# EAGLE library part EB-230 (library X893)
Trimble EB-230
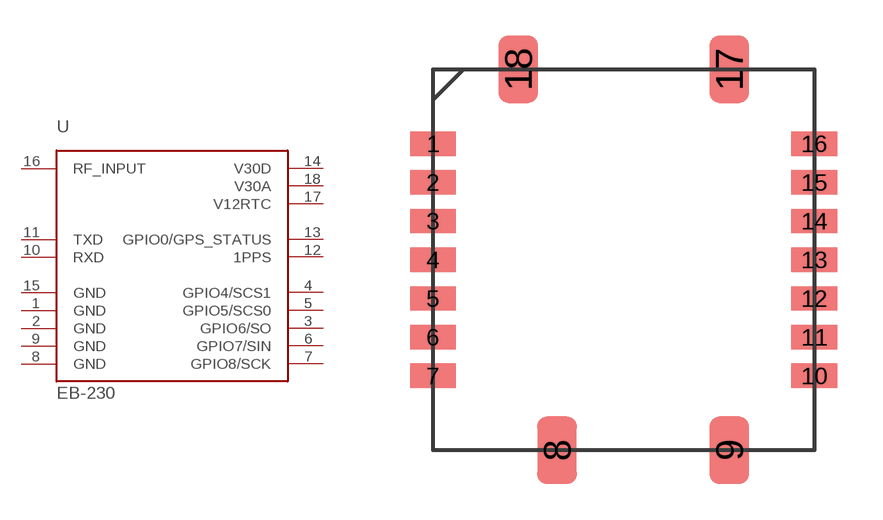
[diagram p1: symbol with the pads of EB-230; footprint EB-230]

Designator prefix -

## EB-230  [EB-230]
1  GND
2  GND
3  GPIO6/SO
4  GPIO4/SCS1
5  GPIO5/SCS0
6  GPIO7/SIN
7  GPIO8/SCK
8  GND
9  GND
10  RXD  in
11  TXD  out
12  1PPS  out
13  GPIO0/GPS_STATUS  out
14  V30D
15  GND
16  RF_INPUT  in
17  V12RTC
18  V30A

## Footprint EB-230 (pad centres in mm)
smd 1.5 x 0.8: 1 -6.25,3.81; 2 -6.25,2.54; 3 -6.25,1.27; 4 -6.25,0; 5 -6.25,-1.27; 6 -6.25,-2.54; 7 -6.25,-3.81; 10 6.25,-3.81; 11 6.25,-2.54; 12 6.25,-1.27; 13 6.25,0; 14 6.25,1.27; 15 6.25,2.54; 16 6.25,3.81
smd 1.3 x 2.2: 8 -2.19,-6.25; 9 3.46,-6.25; 17 3.46,6.25; 18 -3.46,6.25